# EAGLE library part SN74GTL2010_PW_24 (library TI)
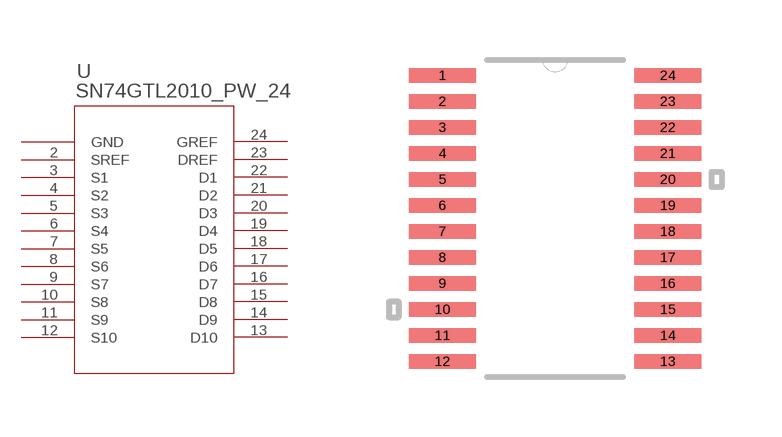
[diagram p1: symbol with the pads of PW24; footprint PW24]

Designator prefix U

## SN74GTL2010_PW_24 (DATASHEETURL: http://www.ti.com/lit/gpn/SN74GTL2010; DESCRIPTION: 10-Bit Voltage Clamp; FAMILY_NAME: TTL/GTL/Open Drain FET Type Bidirectional Translator; GENERIC_PART_NUMBER: SN74GTL2010; INDUSTRY_STD_PKG_TYPE: TSSOP; MANUFACTURER: Texas Instruments; MANUFACTURER_PART_NUMBER: sn74gtl2010_pw_24; PACKAGE_DESIGNATOR: PW; PIN_COUNT: 24; VENDOR: Texas Instruments)  [PW24]
1  GND  pwr
2  SREF  pwr
3  S1
4  S2
5  S3
6  S4
7  S5
8  S6
9  S7
10  S8
11  S9
12  S10
13  D10
14  D9
15  D8
16  D7
17  D6
18  D5
19  D4
20  D3
21  D2
22  D1
23  DREF  pwr
24  GREF  pwr

## Footprint PW24 (pad centres in mm)
smd 1.676 x 0.356: 1 -2.819,3.575; 2 -2.819,2.925; 3 -2.819,2.275; 4 -2.819,1.625; 5 -2.819,0.975; 6 -2.819,0.325; 7 -2.819,-0.325; 8 -2.819,-0.975; 9 -2.819,-1.625; 10 -2.819,-2.275; 11 -2.819,-2.925; 12 -2.819,-3.575; 13 2.819,-3.575; 14 2.819,-2.925; 15 2.819,-2.275; 16 2.819,-1.625; 17 2.819,-0.975; 18 2.819,-0.325; 19 2.819,0.325; 20 2.819,0.975; 21 2.819,1.625; 22 2.819,2.275; 23 2.819,2.925; 24 2.819,3.575